# Altium schematic symbol library 5013310607.SchLib: 1 symbol
Pins are listed as number, name and electrical type; pins without a type are passive.

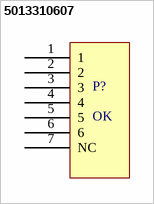
[diagram p0: symbol 5013310607]

## 5013310607
designator P?, comment OK
MOLEX-6PIN-VERTICAL
pins: 1, 2, 3, 4, 5, 6, 7 NC